# EAGLE library part BQ24210 (library template)
800mA,Single-Input,Single Cell Li-Ion Battery Solar Charger
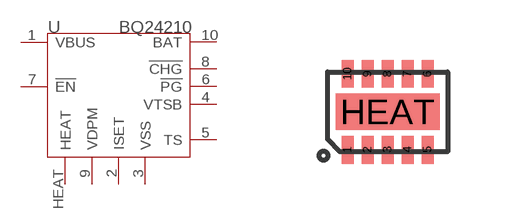
[diagram p5: symbol with the pads of QFN10; footprint QFN10]

Designator prefix U

## BQ24210  [QFN10]
1  VBUS
2  ISET  in
3  VSS  sup
4  VTSB  out
5  TS  in
6  !PG  out
7  !EN  in
8  !CHG  out
9  VDPM  in
10  BAT
HEAT  HEAT

## Footprint QFN10 (pad centres in mm)
smd 0.3 x 0.7: 1 -1,-0.95; 2 -0.5,-0.95; 3 0,-0.95; 4 0.5,-0.95; 5 1,-0.95; 6 1,0.95; 7 0.5,0.95; 8 0,0.95; 9 -0.5,0.95; 10 -1,0.95
smd 2.6 x 0.9: HEAT 0,0